# Altium footprint library DO.PcbLib: 11 footprints
Each footprint in its own frame and in the unit in brackets; x right, y up, seen from the top. Pads: shape width x height; smd on the part's side, far side on the other; paste and mask are expansions set on the pad; w line width, h text height; cw(c..) or ccw(c..) is an arc to the next point about the centre after c.
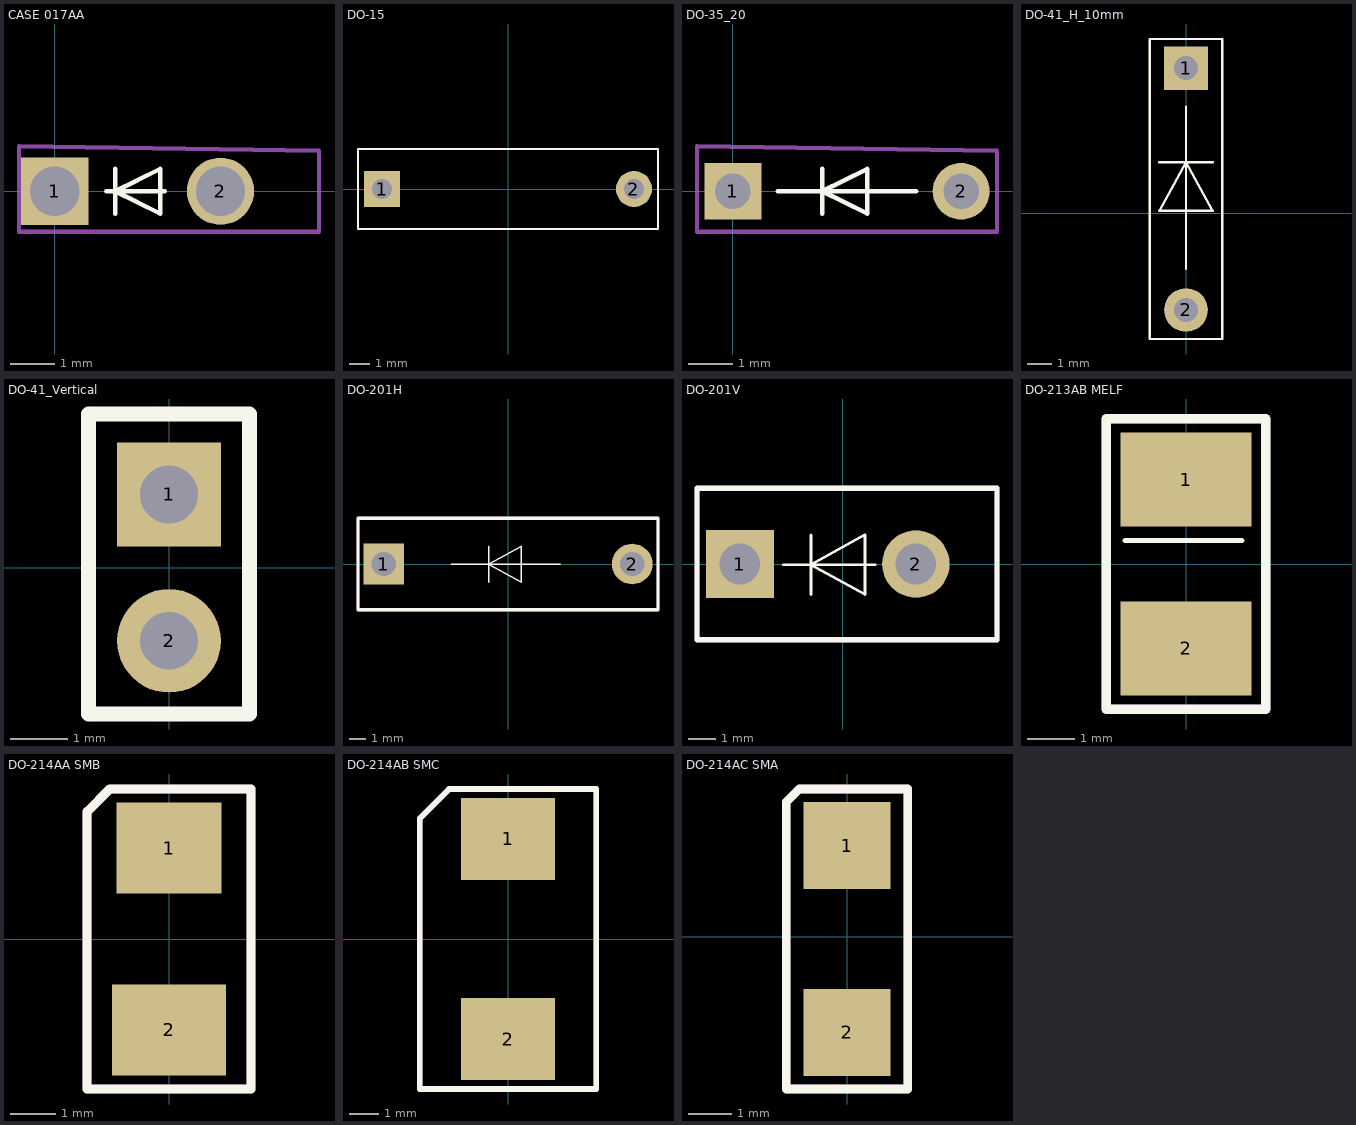
[diagram p0: the footprints below, top view; thin cyan lines are the x and y axes]

## CASE 017AA [mm]
pads (2):
  rect 1.5x1.5 hole 1.1: 1(0,0)
  round 1.5 hole 1.1: 2(3.7,0)
Top Overlay:
  lines w0.1: 1.15,0 2.45,0 ; 1.35,-0.5 1.35,0.5 ; 1.35,0 2.35,0.5 2.35,-0.5 1.35,0
TopAssy:
  lines w0.1: -0.8,-0.9 -0.8,1 5.9,0.9 5.9,-0.9 -0.8,-0.9
3D body "CASE 017AA.stp": height 14.36, standoff -0.78, extent -0.441,-1.8 5.5,1.883

## DO-15 [mm]
pads (2):
  rect 1.8x1.8 hole 1: 1(-6.3,0)
  round 1.8 hole 1: 2(6.3,0)
Top Overlay:
  lines w0.1: -7.5,-2 7.5,-2 7.5,2 -7.5,2 -7.5,-2
TopAssy:
  lines w0.1: -7.5,-2 -7.5,2 ; -7.5,-2 7.5,-2 7.5,2 -7.5,2 ; -7.5,-2 -7.5,2
  text ".Designator" at -3.1,-0.4 h1
3D body "DO-15 12_7mm.step": height 5, standoff -2.5, extent -6.78,-2 6.78,2

## DO-35_20 [mm]
pads (2):
  rect 1.27x1.27 hole 0.8: 1(0,0)
  round 1.27 hole 0.8: 2(5.1,0)
Top Overlay:
  lines w0.1: 1,0 4.1,0 ; 2,-0.5 2,0.5 ; 2,0 3,0.5 3,-0.5 2,0
TopAssy:
  lines w0.1: -0.8,-0.9 -0.8,1 5.9,0.9 5.9,-0.9 -0.8,-0.9
3D body "DO-35G-20.step": height 1.82, standoff -2, extent -0.215,-0.901 5.415,0.901

## DO-41_H_10mm [mm]
pads (2):
  rect 1.8x1.8 hole 1: 1(0,6)
  round 1.8 hole 1: 2(0,-4)
Top Overlay:
  lines w0.1: -1.1,2.1 1.1,2.1 ; 0,-2.3 0,4.4 ; -1.5,-5.2 1.5,-5.2 1.5,7.2 -1.5,7.2 -1.5,-5.2 ; -1.1,0.1 1.1,0.1 0,2.1 -1.1,0.1
3D body "DO-41_H 10mm.step": height 4.36, standoff -1, extent -1.363,-4.41 1.362,6.45

## DO-41_Vertical [mm]
pads (2):
  rect 1.8x1.8 hole 1: 1(0,1.27)
  round 1.8 hole 1: 2(0,-1.27)
Top Overlay:
  lines w0.254: -1.397,-2.54 -1.397,2.667 1.397,2.667 1.397,-2.54 -1.397,-2.54
3D body "User Library-Diod DO-41 Vertical.STEP": height 9.64, standoff -4.5, extent -1.365,-1.7 1.365,2.635

## DO-201H [mm]
pads (2):
  rect 2.5x2.5 hole 1.5: 1(-7.62,0)
  round 2.5 hole 1.5: 2(7.62,0)
Top Overlay:
  lines w0.1: -3.486,-0.025 3.214,-0.025 ; -1.186,-1.125 -1.186,1.075 ; -1.186,-0.025 0.814,1.075 0.814,-1.125 -1.186,-0.025
  lines w0.2: -9.2,-2.8 -9.2,2.8 9.2,2.8 9.2,-2.8 -9.2,-2.8
TopAssy:
  lines w0.2: -9.2,-2.8 -9.2,2.8 9.2,2.8 9.2,-2.8 -9.2,-2.8
  text ".Designator" at -1.6,-0.3 h1.52
3D body "DO-201AD.STEP": height 7.6, standoff -4, extent -8.229,-2.845 8.331,2.755

## DO-201V [mm]
pads (2):
  rect 2.5x2.5 hole 1.5: 1(-3.81,0)
  round 2.5 hole 1.5: 2(2.7,0)
Top Overlay:
  lines w0.1: -2.2,-0.025 1.2,-0.025 ; -1.186,-1.125 -1.186,1.075 ; -1.186,-0.025 0.814,-1.125 0.814,1.075 -1.186,-0.025
  lines w0.2: -5.4,-2.8 5.7,-2.8 5.7,2.8 -5.4,2.8 -5.4,-2.8
TopAssy:
  lines w0.2: -5.4,-2.8 5.7,-2.8 5.7,2.8 -5.4,2.8 -5.4,-2.8
  text ".Designator" at -1.6,-0.3 h1.52
3D body "-DO-201AV-Vertical_2001.STEP": height 15.69, standoff -3, extent -4.39,-2.8 5.5,2.8

## DO-213AB MELF [mm]
pads (2):
  rect 2.8x2 smd: 1(0,1.8) 2(0,-1.8)
Top Overlay:
  lines w0.1: -1.3,0.5 1.2,0.5
  lines w0.2: -1.7,-3.1 -1.7,3.1 1.7,3.1 1.7,-3.1 -1.7,-3.1
TopAssy:
  lines w0.2: -1.7,-3.1 1.7,-3.1 1.7,3.1 -1.7,3.1 -1.7,-3.1
  text ".Designator" at -1.1,-0.5 h1.52
3D body "MELF DO-213AB.step": height 2.64, standoff -0.04, extent -1.37,-2.6 1.3,2.6

## DO-214AA SMB [mm]
pads (2):
  rect 2.3x2 smd: 1(0,2)
  rect 2.5x2 smd: 2(0,-2)
Top Overlay:
  lines w0.2: -1.8,-3.3 1.8,-3.3 1.8,3.3 -1.3,3.3 -1.8,2.8 -1.8,-3.3
TopAssy:
  lines w0.2: -1.8,-3.3 -1.8,2.8 -1.3,3.3 1.8,3.3 1.8,-3.3 -1.8,-3.3
  text ".Designator" at -1.1,-0.3 h1.52
3D body "DO-214AA SMB.step": height 2.3, standoff 0, extent -1.8,-2.7 1.8,2.7

## DO-214AB SMC [mm]
pads (2):
  rect 3.2x2.8 smd: 1(0,3.4) 2(0,-3.4)
Top Overlay:
  lines w0.2: -3,-5.1 3,-5.1 3,5.1 -2,5.1 -3,4.1 -3,-5.1
TopAssy:
  lines w0.2: -3,-5.1 -3,4.1 -2,5.1 3,5.1 3,-5.1 -3,-5.1
  text ".Designator" at -1.6,-0.4 h1.52
3D body "DO-214AB SMC.step": height 2.3, standoff 0, extent -2.95,-3.975 2.95,3.975

## DO-214AC SMA [mm]
pads (2):
  rect 2x2 smd: 1(0,2.1) 2(0,-2.2)
Top Overlay:
  lines w0.2: -1.4,-3.5 1.4,-3.5 1.4,3.4 -1.1,3.4 -1.4,3.1 -1.4,-3.5
TopAssy:
  lines w0.2: -1.4,-3.5 -1.4,3.1 -1.1,3.4 0.5,3.4 1.4,3.4 1.4,-3.5 -1.4,-3.5
  text ".Designator" at -0.7,-0.6 h1.52
3D body "DO-214AC SMA.step": height 2.4, standoff 0, extent -1.3,-2.7 1.3,2.5